# Altium footprint library Project_Oshinoko.PcbLib: 202 footprints (part 11 of 13)
Each footprint in its own frame and in the unit in brackets; x right, y up, seen from the top. Pads: shape width x height; smd on the part's side, far side on the other; paste and mask are expansions set on the pad; w line width, h text height; cw(c..) or ccw(c..) is an arc to the next point about the centre after c.
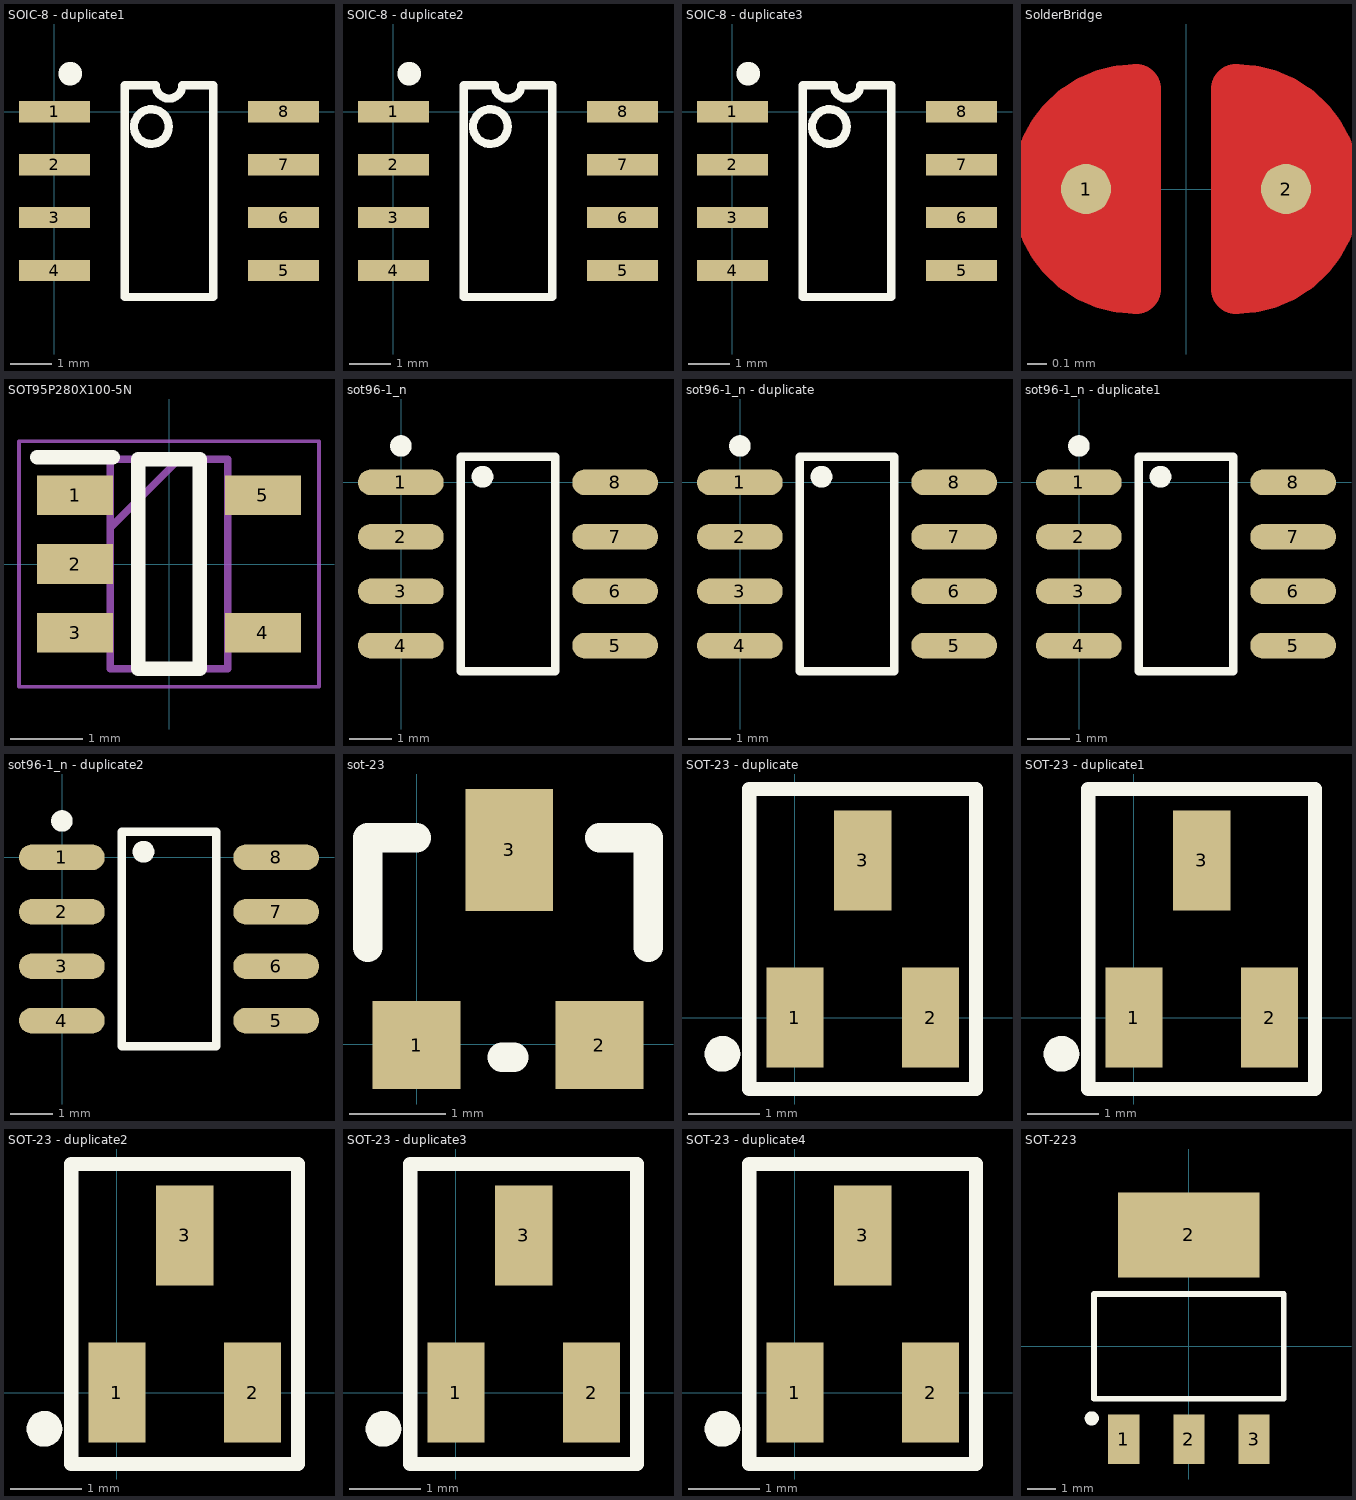
[diagram p10: the footprints below, top view; thin cyan lines are the x and y axes]

## SOIC-8 - duplicate1 [mm]
pads (8):
  rect 1.7x0.51 smd: 1(0,0) 2(0,-1.27) 3(0,-2.54) 4(0,-3.81) 5(5.5,-3.81) 6(5.5,-2.54) 7(5.5,-1.27) 8(5.5,0)
Top Overlay:
  circle w0.2: c2.327,-0.356 r0.417
  circle w0.508: c0.378,0.914 r0.028
  lines w0.2: 1.685,-4.445 3.815,-4.445 3.815,0.635 3.067,0.635 cw(c2.75,0.635) 2.432,0.635 1.685,0.635 1.685,-0.635 1.685,-3.175 1.685,-4.445

## SOIC-8 - duplicate2 [mm]
pads (8):
  rect 1.7x0.51 smd: 1(0,0) 2(0,-1.27) 3(0,-2.54) 4(0,-3.81) 5(5.5,-3.81) 6(5.5,-2.54) 7(5.5,-1.27) 8(5.5,0)
Top Overlay:
  circle w0.2: c2.327,-0.356 r0.417
  circle w0.508: c0.378,0.914 r0.028
  lines w0.2: 1.685,-4.445 3.815,-4.445 3.815,0.635 3.067,0.635 cw(c2.75,0.635) 2.432,0.635 1.685,0.635 1.685,-0.635 1.685,-3.175 1.685,-4.445

## SOIC-8 - duplicate3 [mm]
pads (8):
  rect 1.7x0.51 smd: 1(0,0) 2(0,-1.27) 3(0,-2.54) 4(0,-3.81) 5(5.5,-3.81) 6(5.5,-2.54) 7(5.5,-1.27) 8(5.5,0)
Top Overlay:
  circle w0.2: c2.327,-0.356 r0.417
  circle w0.508: c0.378,0.914 r0.028
  lines w0.2: 1.685,-4.445 3.815,-4.445 3.815,0.635 3.068,0.635 cw(c2.75,0.635) 2.432,0.635 1.685,0.635 1.685,-0.635 1.685,-3.175 1.685,-4.445

## SolderBridge [mil]
pads (2):
  round 10 smd mask+0: 1(-20,0) 2(20,0)
Top Layer:
  region: 10,20 20,20 30,10 30,-10 20,-20 10,-20
  region: -10,-20 -20,-20 -30,-10 -30,10 -20,20 -10,20
  lines w10: -10,0 -10,-20 ; -10,-20 cw(c-10,0) -10,20 -10,-20 ; 10,-20 ccw(c10,0) 10,20 10,-20
Top Solder:
  circle w29: c-10,0 r11
  circle w29: c10,0 r11
  lines w11: -10,-20 10,-20 ; -10,20 10,20

## SOT95P280X100-5N [mm]
pads (5):
  rect 1.05x0.55 smd: 1(-1.3,0.95) 2(-1.3,0) 3(-1.3,-0.95) 4(1.3,-0.95) 5(1.3,0.95)
Top Overlay:
  lines w0.2: -1.825,1.475 -0.775,1.475 ; -0.425,-1.45 -0.425,1.45 0.425,1.45 0.425,-1.45 -0.425,-1.45
Mechanical 13:
  lines w0.1: -0.812,0.5 0.138,1.45 ; -0.812,-1.45 -0.812,1.45 0.812,1.45 0.812,-1.45 -0.812,-1.45
Mechanical 15:
  lines w0.05: -2.075,-1.7 -2.075,1.7 2.075,1.7 2.075,-1.7 -2.075,-1.7
3D body "LTC6240HVCS5#TRMPBF.stp": height 1, standoff 0, extent -1.4,-1.45 1.4,1.45

## sot96-1_n [mm]
pads (8):
  oval 2x0.6 smd: 1(-0.004,-0.008) 2(-0.004,-1.278) 3(-0.004,-2.548) 4(-0.004,-3.818) 5(4.996,-3.818) 6(4.996,-2.548) 7(4.996,-1.278) 8(4.996,-0.008)
Top Overlay:
  circle w0.254: c1.901,0.123 r0.127
  circle w0.25: c-0.004,0.842 r0.125
  lines w0.2: 1.396,-4.413 3.596,-4.413 3.596,0.588 1.396,0.588 1.396,-4.413

## sot96-1_n - duplicate [mm]
pads (8):
  oval 2x0.6 smd: 1(-0.004,-0.008) 2(-0.004,-1.278) 3(-0.004,-2.548) 4(-0.004,-3.818) 5(4.996,-3.818) 6(4.996,-2.548) 7(4.996,-1.278) 8(4.996,-0.008)
Top Overlay:
  circle w0.254: c1.901,0.123 r0.127
  circle w0.25: c-0.004,0.842 r0.125
  lines w0.2: 1.396,-4.413 3.596,-4.413 3.596,0.588 1.396,0.588 1.396,-4.413

## sot96-1_n - duplicate1 [mm]
pads (8):
  oval 2x0.6 smd: 1(-0.004,-0.008) 2(-0.004,-1.278) 3(-0.004,-2.548) 4(-0.004,-3.818) 5(4.996,-3.818) 6(4.996,-2.548) 7(4.996,-1.278) 8(4.996,-0.008)
Top Overlay:
  circle w0.254: c1.901,0.123 r0.127
  circle w0.25: c-0.004,0.842 r0.125
  lines w0.2: 1.396,-4.413 3.596,-4.413 3.596,0.588 1.396,0.588 1.396,-4.413

## sot96-1_n - duplicate2 [mm]
pads (8):
  oval 2x0.6 smd: 1(-0.004,-0.008) 2(-0.004,-1.278) 3(-0.004,-2.548) 4(-0.004,-3.818) 5(4.996,-3.818) 6(4.996,-2.548) 7(4.996,-1.278) 8(4.996,-0.008)
Top Overlay:
  circle w0.254: c1.901,0.123 r0.127
  circle w0.25: c-0.004,0.842 r0.125
  lines w0.2: 1.396,-4.413 3.596,-4.413 3.596,0.588 1.396,0.588 1.396,-4.413

## sot-23 [mil]
height 23.62
pads (3):
  rect 36x36 smd: 1(-0.02,-0.41) 2(74.98,-0.41)
  rect 36x50 smd: 3(37.98,79.59)
Top Overlay:
  lines w12: -20.02,39.59 -20.02,84.59 -0.02,84.59 ; 34.98,-5.41 39.98,-5.41 ; 74.98,84.59 94.98,84.59 94.98,39.59

## SOT-23 - duplicate [mm]
pads (3):
  rect 0.8x1.4 smd: 1(0,0) 2(1.9,0) 3(0.95,2.2)
Top Overlay:
  circle w0.25: c-1.014,-0.508 r0.125
  lines w0.2: -0.637,-1 2.538,-1 2.538,3.2 -0.637,3.2 -0.637,-1

## SOT-23 - duplicate1 [mm]
pads (3):
  rect 0.8x1.4 smd: 1(0,0) 2(1.9,0) 3(0.95,2.2)
Top Overlay:
  circle w0.25: c-1.014,-0.508 r0.125
  lines w0.2: -0.637,-1 2.538,-1 2.538,3.2 -0.637,3.2 -0.637,-1

## SOT-23 - duplicate2 [mm]
pads (3):
  rect 0.8x1.4 smd: 1(0,0) 2(1.9,0) 3(0.95,2.2)
Top Overlay:
  circle w0.25: c-1.014,-0.508 r0.125
  lines w0.2: -0.637,-1 -0.637,3.2 2.538,3.2 2.538,-1 -0.637,-1

## SOT-23 - duplicate3 [mm]
pads (3):
  rect 0.8x1.4 smd: 1(0,0) 2(1.9,0) 3(0.95,2.2)
Top Overlay:
  circle w0.25: c-1.014,-0.508 r0.125
  lines w0.2: -0.637,-1 -0.637,3.2 2.538,3.2 2.538,-1 -0.637,-1

## SOT-23 - duplicate4 [mm]
pads (3):
  rect 0.8x1.4 smd: 1(0,0) 2(1.9,0) 3(0.95,2.2)
Top Overlay:
  circle w0.25: c-1.014,-0.508 r0.125
  lines w0.2: -0.637,-1 2.538,-1 2.538,3.2 -0.637,3.2 -0.637,-1

## SOT-223 [mm]
pads (4):
  rect 1.1x1.75 smd: 1(-2.3,-3.275) 2(0,-3.275) 3(2.3,-3.275)
  rect 5x3 smd: 2(0,3.937)
Top Overlay:
  circle w0.25: c-3.427,-2.54 r0.125
  lines w0.2: -3.35,-1.85 3.35,-1.85 3.35,1.85 -3.35,1.85 -3.35,-1.85